# EAGLE library part 03962A-PTH (library 03962A)
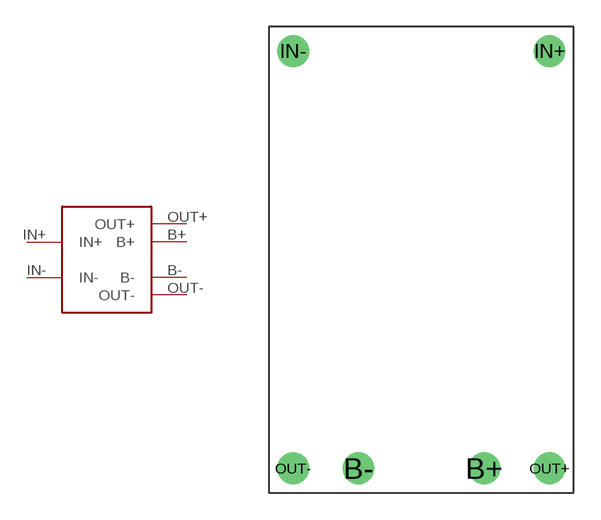
[diagram p1: symbol with the pads of 03962A-PTH; footprint 03962A-PTH]

Designator prefix -

## 03962A-PTH  [03962A-PTH]
B+  B+
B-  B-
IN+  IN+
IN-  IN-
OUT+  OUT+
OUT-  OUT-

## Footprint 03962A-PTH (pad centres in mm)
drill 1.016 pad 1.778: B+ 12,1.35; B- 5,1.35; IN+ 15.65,24.65; IN- 1.35,24.65; OUT+ 15.65,1.35; OUT- 1.35,1.35